# EAGLE library part MICROBUILDER_ACCEL_LIS3DHTR (library Adafruit Circuit Playground Bluefruit)
LIS3DHTR 3-Axis Accelerometer with I2C/SPI Interface VDD: 1.71-3.6V VDDIO: 1.71-VDD+0.1V Scale: +/-2g, 4g, 8g, 16g with 16--bit data output Temp:: -40°C - 85°C Mouser: 511-LIS3DHTR Digikey: 497-10613-1-ND
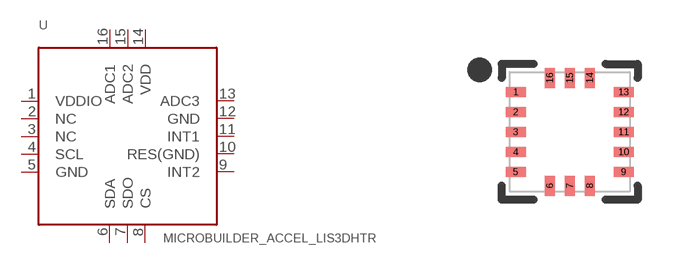
[diagram p2: symbol with the pads of MICROBUILDER_LGA16_3X3MM; footprint MICROBUILDER_LGA16_3X3MM]

Designator prefix U

## MICROBUILDER_ACCEL_LIS3DHTR  [MICROBUILDER_LGA16_3X3MM]
1  VDDIO  sup
2  NC  nc
3  NC  nc
4  SCL
5  GND  sup
6  SDA
7  SDO
8  CS  in
9  INT2  out
10  RES(GND)
11  INT1  out
12  GND  sup
13  ADC3  in
14  VDD  sup
15  ADC2  in
16  ADC1  in

## Footprint MICROBUILDER_LGA16_3X3MM (pad centres in mm)
smd 0.5 x 0.25: 1 -1.35,1; 2 -1.35,0.5; 3 -1.35,0; 4 -1.35,-0.5; 5 -1.35,-1; 9 1.35,-1; 10 1.35,-0.5; 11 1.35,0; 12 1.35,0.5; 13 1.35,1
smd 0.25 x 0.5: 6 -0.5,-1.35; 7 0,-1.35; 8 0.5,-1.35; 14 0.5,1.35; 15 0,1.35; 16 -0.5,1.35